# EAGLE library part 1775059-1 (library 1775059-1)
CONN SD CARD PUSH-PUSH R/A SMD Check availability <https://pricing.snapeda.com/parts/1775059-1/TE%20Connectivity/view-part?ref=eda>
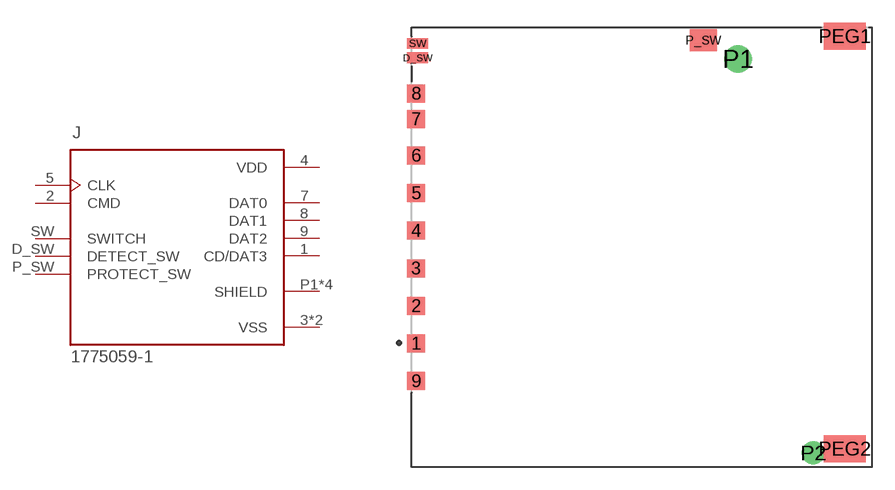
[diagram p0: symbol with the pads of TE_1775059-1; footprint TE_1775059-1]

Designator prefix J

## 1775059-1 (Availability: In Stock; Check_prices: https://www.snapeda.com/parts/1775059-1/TE+Connectivity+AMP+Connectors/view-part/?ref=eda; Comment: 1775059-1; Description: Right Angle Surface Mount SD Card Connector, with Solder Termination | TE Connectivity 1775059-1; MF: TE Connectivity; MP: 1775059-1; Package: None; Price: None; SnapEDA_Link: https://www.snapeda.com/parts/1775059-1/TE+Connectivity+AMP+Connectors/view-part/?ref=snap)  [TE_1775059-1]
1  CD/DAT3
2  CMD  in
3  VSS  pwr
4  VDD  pwr
5  CLK  in
6  VSS  pwr
7  DAT0
8  DAT1
9  DAT2
D_SW  DETECT_SW  pas
P1  SHIELD  pas
P2  SHIELD  pas
P_SW  PROTECT_SW  pas
PEG1  SHIELD  pas
PEG2  SHIELD  pas
SW  SWITCH  pas

## Footprint TE_1775059-1 (pad centres in mm)
smd 1.2 x 1.2: 1 -21.4,-18.925; 2 -21.4,-16.425; 3 -21.4,-13.925; 4 -21.4,-11.425; 5 -21.4,-8.925; 6 -21.4,-6.425; 7 -21.4,-4; 8 -21.4,-2.3; 9 -21.4,-21.425
smd 1.4 x 0.73: D_SW -21.3,0.07; SW -21.3,1.03
drill 1.2: P1 0,0
drill 1: P2 5,-26.2
smd 1.8 x 1.45: P_SW -2.3,1.25
smd 2.8 x 1.8: PEG1 7.1,1.52; PEG2 7.1,-25.92